# EAGLE library part SCM20260N (library sitcore)
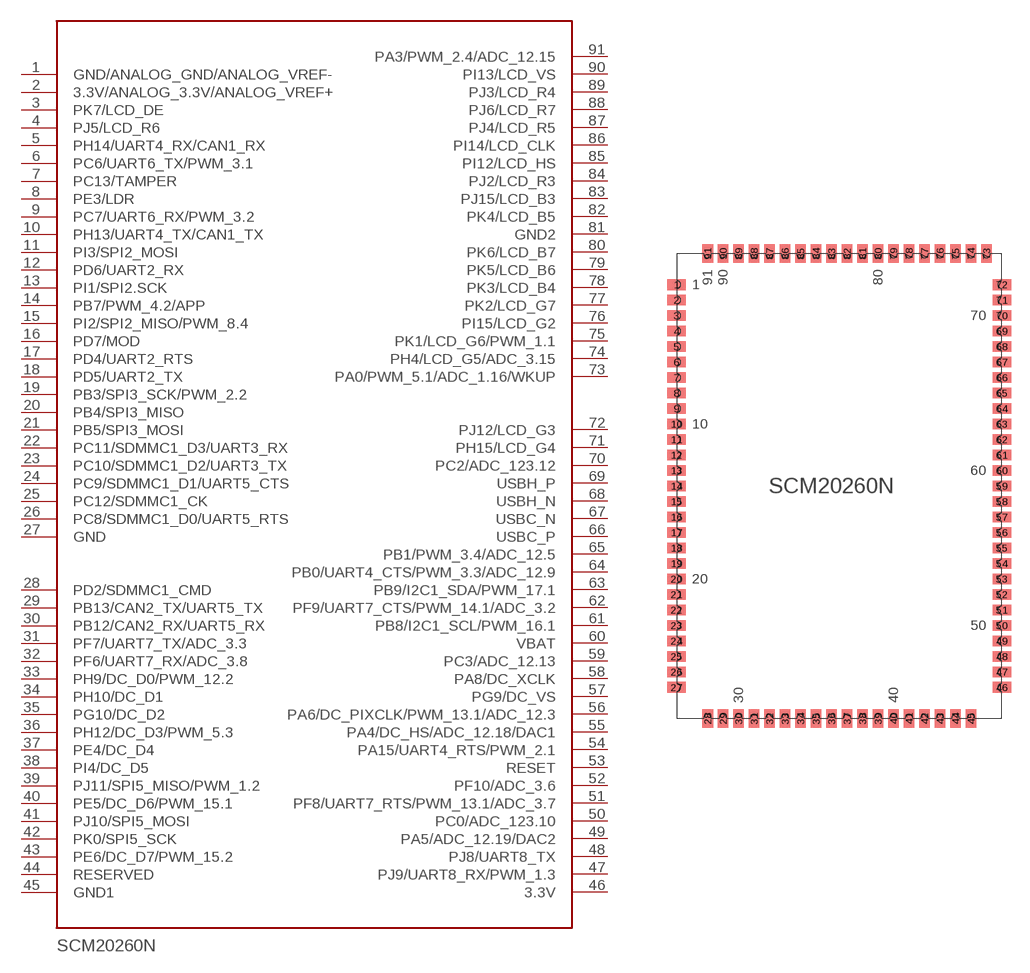
[diagram p1: symbol with the pads of SCM20260N; footprint SCM20260N]

Designator prefix -

## SCM20260N  [SCM20260N]
1  GND/ANALOG_GND/ANALOG_VREF-
2  3.3V/ANALOG_3.3V/ANALOG_VREF+
3  PK7/LCD_DE
4  PJ5/LCD_R6
5  PH14/UART4_RX/CAN1_RX
6  PC6/UART6_TX/PWM_3.1
7  PC13/TAMPER
8  PE3/LDR
9  PC7/UART6_RX/PWM_3.2
10  PH13/UART4_TX/CAN1_TX
11  PI3/SPI2_MOSI
12  PD6/UART2_RX
13  PI1/SPI2.SCK
14  PB7/PWM_4.2/APP
15  PI2/SPI2_MISO/PWM_8.4
16  PD7/MOD
17  PD4/UART2_RTS
18  PD5/UART2_TX
19  PB3/SPI3_SCK/PWM_2.2
20  PB4/SPI3_MISO
21  PB5/SPI3_MOSI
22  PC11/SDMMC1_D3/UART3_RX
23  PC10/SDMMC1_D2/UART3_TX
24  PC9/SDMMC1_D1/UART5_CTS
25  PC12/SDMMC1_CK
26  PC8/SDMMC1_D0/UART5_RTS
27  GND
28  PD2/SDMMC1_CMD
29  PB13/CAN2_TX/UART5_TX
30  PB12/CAN2_RX/UART5_RX
31  PF7/UART7_TX/ADC_3.3
32  PF6/UART7_RX/ADC_3.8
33  PH9/DC_D0/PWM_12.2
34  PH10/DC_D1
35  PG10/DC_D2
36  PH12/DC_D3/PWM_5.3
37  PE4/DC_D4
38  PI4/DC_D5
39  PJ11/SPI5_MISO/PWM_1.2
40  PE5/DC_D6/PWM_15.1
41  PJ10/SPI5_MOSI
42  PK0/SPI5_SCK
43  PE6/DC_D7/PWM_15.2
44  RESERVED
45  GND1
46  3.3V
47  PJ9/UART8_RX/PWM_1.3
48  PJ8/UART8_TX
49  PA5/ADC_12.19/DAC2
50  PC0/ADC_123.10
51  PF8/UART7_RTS/PWM_13.1/ADC_3.7
52  PF10/ADC_3.6
53  RESET
54  PA15/UART4_RTS/PWM_2.1
55  PA4/DC_HS/ADC_12.18/DAC1
56  PA6/DC_PIXCLK/PWM_13.1/ADC_12.3
57  PG9/DC_VS
58  PA8/DC_XCLK
59  PC3/ADC_12.13
60  VBAT
61  PB8/I2C1_SCL/PWM_16.1
62  PF9/UART7_CTS/PWM_14.1/ADC_3.2
63  PB9/I2C1_SDA/PWM_17.1
64  PB0/UART4_CTS/PWM_3.3/ADC_12.9
65  PB1/PWM_3.4/ADC_12.5
66  USBC_P
67  USBC_N
68  USBH_N
69  USBH_P
70  PC2/ADC_123.12
71  PH15/LCD_G4
72  PJ12/LCD_G3
73  PA0/PWM_5.1/ADC_1.16/WKUP
74  PH4/LCD_G5/ADC_3.15
75  PK1/LCD_G6/PWM_1.1
76  PI15/LCD_G2
77  PK2/LCD_G7
78  PK3/LCD_B4
79  PK5/LCD_B6
80  PK6/LCD_B7
81  GND2
82  PK4/LCD_B5
83  PJ15/LCD_B3
84  PJ2/LCD_R3
85  PI12/LCD_HS
86  PI14/LCD_CLK
87  PJ4/LCD_R5
88  PJ6/LCD_R7
89  PJ3/LCD_R4
90  PI13/LCD_VS
91  PA3/PWM_2.4/ADC_12.15

## Footprint SCM20260N (pad centres in mm)
smd 1.524 x 0.889: 1 -12.7,16.51; 2 -12.7,15.24; 3 -12.7,13.97; 4 -12.7,12.7; 5 -12.7,11.43; 6 -12.7,10.16; 7 -12.7,8.89; 8 -12.7,7.62; 9 -12.7,6.35; 10 -12.7,5.08; 11 -12.7,3.81; 12 -12.7,2.54; 13 -12.7,1.27; 14 -12.7,0; 15 -12.7,-1.27; 16 -12.7,-2.54; 17 -12.7,-3.81; 18 -12.7,-5.08; 19 -12.7,-6.35; 20 -12.7,-7.62; 21 -12.7,-8.89; 22 -12.7,-10.16; 23 -12.7,-11.43; 24 -12.7,-12.7; 25 -12.7,-13.97; 26 -12.7,-15.24; 27 -12.7,-16.51; 46 13.97,-16.51; 47 13.97,-15.24; 48 13.97,-13.97; 49 13.97,-12.7; 50 13.97,-11.43; 51 13.97,-10.16; 52 13.97,-8.89; 53 13.97,-7.62; 54 13.97,-6.35; 55 13.97,-5.08; 56 13.97,-3.81; 57 13.97,-2.54; 58 13.97,-1.27; 59 13.97,0; 60 13.97,1.27; 61 13.97,2.54; 62 13.97,3.81; 63 13.97,5.08; 64 13.97,6.35; 65 13.97,7.62; 66 13.97,8.89; 67 13.97,10.16; 68 13.97,11.43; 69 13.97,12.7; 70 13.97,13.97; 71 13.97,15.24; 72 13.97,16.51
smd 0.889 x 1.524: 28 -10.16,-19.05; 29 -8.89,-19.05; 30 -7.62,-19.05; 31 -6.35,-19.05; 32 -5.08,-19.05; 33 -3.81,-19.05; 34 -2.54,-19.05; 35 -1.27,-19.05; 36 0,-19.05; 37 1.27,-19.05; 38 2.54,-19.05; 39 3.81,-19.05; 40 5.08,-19.05; 41 6.35,-19.05; 42 7.62,-19.05; 43 8.89,-19.05; 44 10.16,-19.05; 45 11.43,-19.05; 73 12.7,19.05; 74 11.43,19.05; 75 10.16,19.05; 76 8.89,19.05; 77 7.62,19.05; 78 6.35,19.05; 79 5.08,19.05; 80 3.81,19.05; 81 2.54,19.05; 82 1.27,19.05; 83 0,19.05; 84 -1.27,19.05; 85 -2.54,19.05; 86 -3.81,19.05; 87 -5.08,19.05; 88 -6.35,19.05; 89 -7.62,19.05; 90 -8.89,19.05; 91 -10.16,19.05